# EAGLE library part U-ONSEMI-AX5043 (library U-ON-Semi-AX5043-radio)
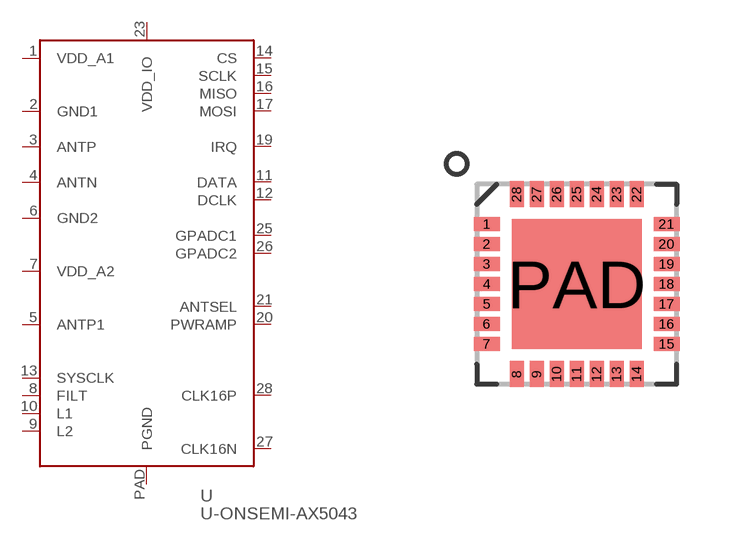
[diagram p0: symbol with the pads of QFN28-5X5-WITH-CENTER-PAD; footprint QFN28-5X5-WITH-CENTER-PAD]

Designator prefix U

## U-ONSEMI-AX5043  [QFN28-5X5-WITH-CENTER-PAD]
1  VDD_A1  pwr
2  GND1  pwr
3  ANTP
4  ANTN
5  ANTP1
6  GND2  pwr
7  VDD_A2  pwr
8  FILT  out
9  L2
10  L1
11  DATA
12  DCLK
13  SYSCLK
14  CS  in
15  SCLK  in
16  MISO  out
17  MOSI  in
19  IRQ
20  PWRAMP
21  ANTSEL
23  VDD_IO  pwr
25  GPADC1  in
26  GPADC2  in
27  CLK16N  pas
28  CLK16P  pas
PAD  PGND  pwr

## Footprint QFN28-5X5-WITH-CENTER-PAD (pad centres in mm)
smd 0.65 x 0.35: 1 -2.25,1.5; 2 -2.25,1; 3 -2.25,0.5; 4 -2.25,0; 5 -2.25,-0.5; 6 -2.25,-1; 7 -2.25,-1.5; 15 2.25,-1.5; 16 2.25,-1; 17 2.25,-0.5; 18 2.25,0; 19 2.25,0.5; 20 2.25,1; 21 2.25,1.5
smd 0.35 x 0.65: 8 -1.5,-2.25; 9 -1,-2.25; 10 -0.5,-2.25; 11 0,-2.25; 12 0.5,-2.25; 13 1,-2.25; 14 1.5,-2.25; 22 1.5,2.25; 23 1,2.25; 24 0.5,2.25; 25 0,2.25; 26 -0.5,2.25; 27 -1,2.25; 28 -1.5,2.25
smd 3.25 x 3.25: PAD 0,0